# Altium schematic symbol library ESP Programming.SchLib: 1 symbol
Pins are listed as number, name and electrical type; pins without a type are passive.

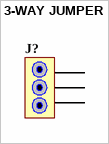
[diagram p0: symbol 3-WAY JUMPER]

## 3-WAY JUMPER
designator J?  (value not drawn)
3-Way Jumper - Center Output
footprint HDR1X3 (Connector; Header; 3 Position)
signal-integrity model Connector
pins: 1, 2, 3